# EAGLE library part LCD1202 (library lcd1202)
1.3" b/w graphics display 96x68 pixel. From Nokia 1202 cell phone
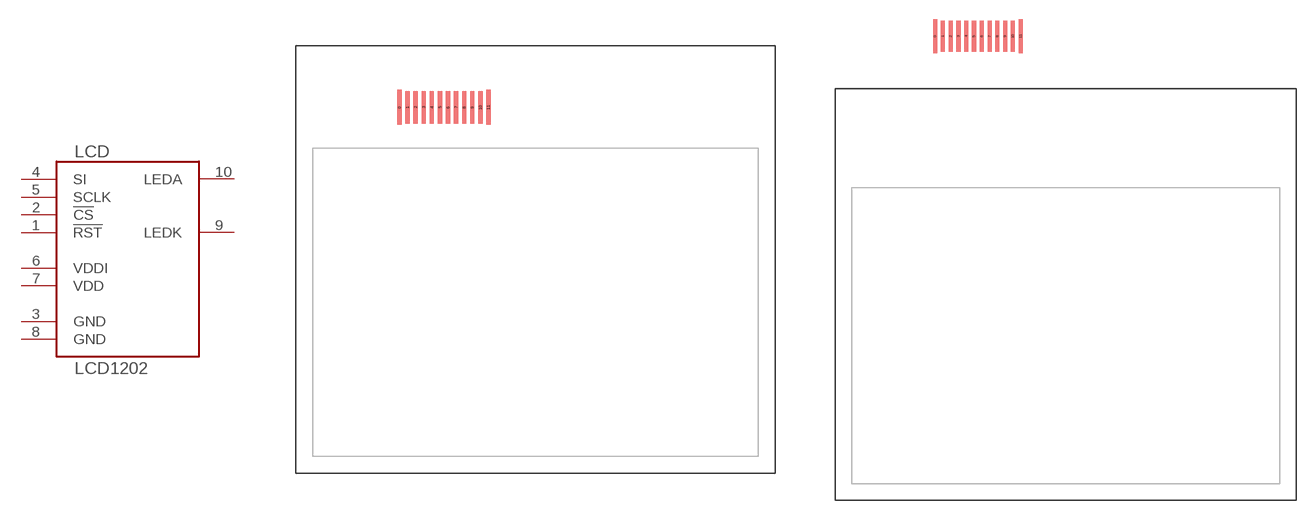
[diagram p0: symbol with the pads of NOKIA1202LCD; footprints NOKIA1202LCD, NOKIA1202LCD-EXT]

Designator prefix LCD

## LCD1202  [NOKIA1202LCD]
1  !RST  in
2  !CS  in
3  GND  pwr
4  SI  in
5  SCLK  in
6  VDDI  pwr
7  VDD  pwr
8  GND  pwr
9  LEDK  pas
10  LEDA  pas

## LCD1202-EXT  [NOKIA1202LCD-EXT]
Pads as for NOKIA1202LCD

## Footprint NOKIA1202LCD (pad centres in mm)
smd 0.32 x 2.6: 0 -10.09,14.478; 11 -3.49,14.478
smd 0.32 x 2.4: 1 -9.49,14.478; 2 -8.89,14.478; 3 -8.29,14.478; 4 -7.69,14.478; 5 -7.09,14.478; 6 -6.49,14.478; 7 -5.89,14.478; 8 -5.29,14.478; 9 -4.69,14.478; 10 -4.09,14.478

## Footprint NOKIA1202LCD-EXT (pad centres in mm)
smd 0.32 x 2.6: 0 -10.09,23.114; 11 -3.49,23.114
smd 0.32 x 2.4: 1 -9.49,23.114; 2 -8.89,23.114; 3 -8.29,23.114; 4 -7.69,23.114; 5 -7.09,23.114; 6 -6.49,23.114; 7 -5.89,23.114; 8 -5.29,23.114; 9 -4.69,23.114; 10 -4.09,23.114